# Altium footprint library PCB_Connector.PcbLib: 18 footprints (part 2 of 2)
Each footprint in its own frame and in the unit in brackets; x right, y up, seen from the top. Pads: shape width x height; smd on the part's side, far side on the other; paste and mask are expansions set on the pad; w line width, h text height; cw(c..) or ccw(c..) is an arc to the next point about the centre after c.
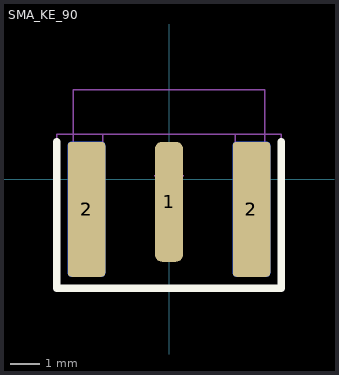
[diagram p1: the footprints below, top view; thin cyan lines are the x and y axes]

## SMA_KE_90 [mil]
pads (5):
  rrect50% 37.4x160 smd paste-160: 1(0,-30)
  rrect20% 50x180 smd paste-180: 2(-110,-40) 2(110,-40)
  rrect20% 50x180 smd far side paste-180: 2(-110,-40) 2(110,-40)
Top Overlay:
  lines w10: -150,50 -150,-145 150,-145 150,50
Mechanical 13:
  lines w2: -88.58,60 -88.58,-97.48 -127.95,-97.48 -127.95,60 ; -19.69,5 19.68,5 ; 88.58,60 88.58,-97.48 127.95,-97.48 127.95,60 ; -127.95,60 127.95,60 ; -127.95,60 -127.95,119.06 127.95,119.06 127.95,60
T-Component:
  lines w2: -150,-145 -150,60 150,60 150,-145 -150,-145
  text ".Designator" at -55,-60 h80
3D body "ALSRobot-SMA-KHD19A.STEP": height 125.98, standoff -114.17, extent -120.08,-100 120.08,431.49

## ZBUF_3DMODEL [mm]
3D body "47641.stp": height 2.5, standoff -0.6, extent 3.895,-8.763 11.345,-2.063
3D body "47659.stp": height 2.5, standoff -0.6, extent -3.284,-0.477 11.666,6.223
3D body "47631.stp": height 2.5, standoff -0.6, extent -5.248,8.133 12.202,14.833